# Altium footprint library C23186.PcbLib: 1 footprints
Each footprint in its own frame and in the unit in brackets; x right, y up, seen from the top. Pads: shape width x height; smd on the part's side, far side on the other; paste and mask are expansions set on the pad; w line width, h text height; cw(c..) or ccw(c..) is an arc to the next point about the centre after c.
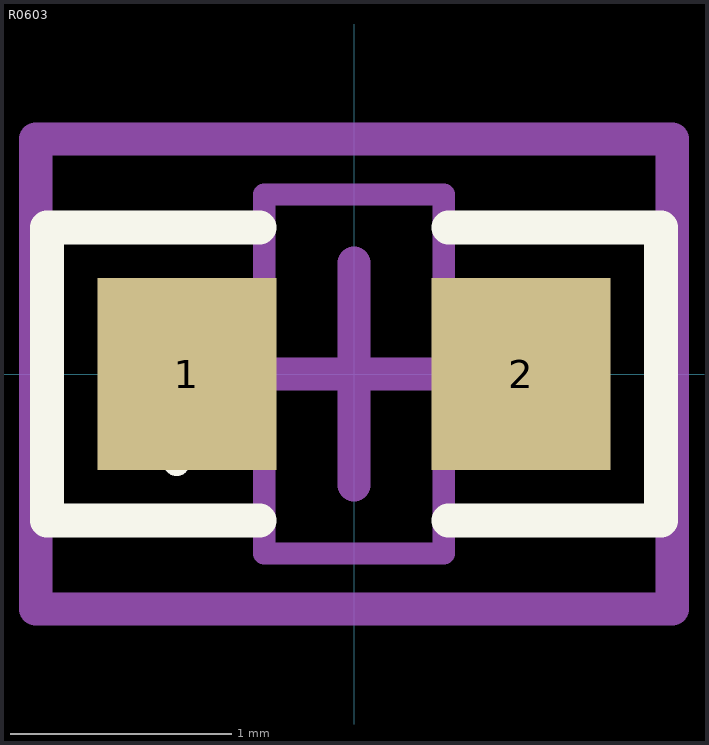
[diagram p0: the footprint, top view; thin cyan lines are the x and y axes]

## R0603 [mm] "5.1k? ±1% 100mW 0603 Thick Film Resistor"
pads (2):
  rect 0.806x0.864 smd: 1(-0.753,0) 2(0.753,0)
Top Overlay:
  circle w0.06: c-0.8,-0.4 r0.03
  lines w0.152: -0.426,-0.661 -1.385,-0.661 -1.385,0.661 -0.426,0.661 ; 0.426,-0.661 1.385,-0.661 1.385,0.661 0.426,0.661
Top Paste:
  region: 1.195,0.45 0.395,0.45 0.345,0.4 0.345,0.172 0.715,0.172 0.715,-0.158 0.345,-0.158 0.345,-0.4 0.395,-0.45 1.195,-0.45 1.245,-0.4 1.245,0.4
  region: -1.195,-0.45 -0.395,-0.45 -0.345,-0.4 -0.345,-0.172 -0.715,-0.172 -0.715,0.158 -0.345,0.158 -0.345,0.4 -0.395,0.45 -1.195,0.45 -1.245,0.4 -1.245,-0.4
AOI:
  region: -0.8,-0.4 -0.8,0.4 -0.5,0.4 -0.5,-0.4
  region: 0.8,-0.4 0.8,0.4 0.5,0.4 0.5,-0.4
Top 3D Body:
  lines w0.1: -0.405,-0.81 0.405,-0.81 0.405,0.81 -0.405,0.81 -0.405,-0.81
Top Courtyard:
  lines w0.15: -0.5,0 0.5,0 ; 0,-0.5 0,0.5 ; -1.435,-1.06 1.435,-1.06 1.435,1.06 -1.435,1.06 -1.435,-1.06
3D body "R0603.step": height 0.03, standoff 0, extent -0.405,-0.81 0.405,0.81